# EAGLE library part OPTO:LINEAR-TYPE1 (library QuantumOptics)
Linear opto-coupler, Avago HCNR20x or Clare LOC11x Best: http://www.avagotech.com/docs/AV02-0886EN Okay: http://www.clare.com/home/pdfs.nsf/www/LOC110.pdf/$file/LOC110.pdf
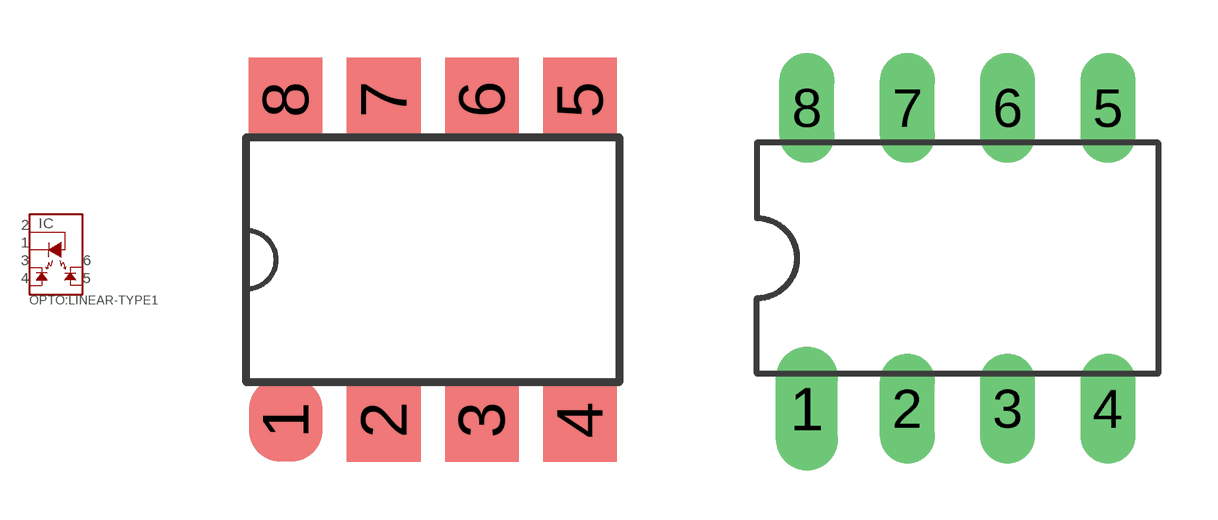
[diagram p122: symbol with the pads of S-CLARE-8(SMT); footprints S-CLARE-8(SMT), DIL08]

Designator prefix IC

## OPTO:LINEAR-TYPE1-S  [S-CLARE-8(SMT)]
1  LED-  in
2  LED+  in
3  VCC1
4  I1
5  I2
6  VCC2

## OPTO:LINEAR-TYPE1-P  [DIL08]
Pads as for S-CLARE-8(SMT)

## OPTO:LINEAR-TYPE1AVAGO#300  [SMD:AVAGO#300(8PIN)]
Pads as for S-CLARE-8(SMT)

## Footprint S-CLARE-8(SMT) (pad centres in mm)
Wierd Clare package type "S", wide SMD-8 http://www.clare.com/home/pdfs.nsf/www/LOC110.pdf/$file/LOC110.pdf
smd 1.905 x 2.159: 1 -3.81,-4.153; 2 -1.27,-4.153; 3 1.27,-4.153; 4 3.81,-4.153; 5 3.81,4.153; 6 1.27,4.153; 7 -1.27,4.153; 8 -3.81,4.153

## Footprint DIL08 (pad centres in mm)
Dual In Line Package
drill 0.889 pad 1.575 long: 1 -3.81,-3.81
drill 0.889 long: 2 -1.27,-3.81; 3 1.27,-3.81; 4 3.81,-3.81; 5 3.81,3.81; 6 1.27,3.81; 7 -1.27,3.81; 8 -3.81,3.81

## Footprint SMD:AVAGO#300(8PIN) (pad centres in mm)
Avago #300 SMD, wierd proprietary SMD-8 for opto-couplers. http://www.avagotech.com/docs/AV02-0886EN
smd 1.5 x 3: 1 -3.81,-6; 2 -1.27,-6; 3 1.27,-6; 4 3.81,-6; 5 3.81,6; 6 1.27,6; 7 -1.27,6; 8 -3.81,6